# EAGLE library part LM25119?* (library LM5119)
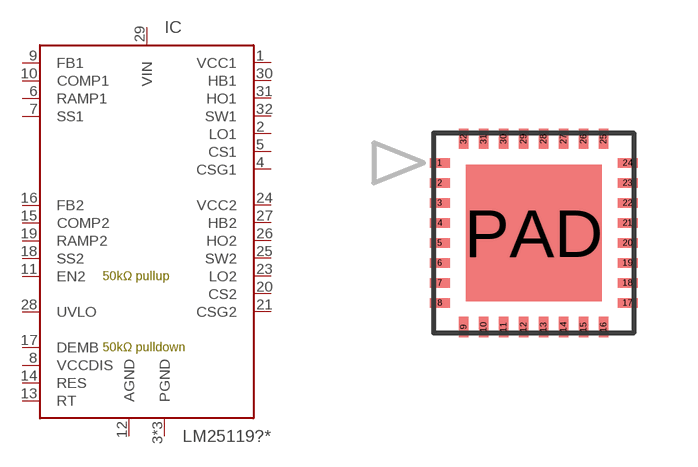
[diagram p1: symbol with the pads of QFN32-5X5-0.5; footprint QFN32-5X5-0.5]

Designator prefix IC

## LM25119PSQ/NOPB (MF: Texas Instruments; MPN: LM25119PSQ/NOPB), LM25119PSQE/NOPB (MF: Texas Instruments; MPN: LM25119PSQE/NOPB), LM25119PSQX/NOPB (MF: Texas Instruments; MPN: LM25119PSQX/NOPB)  [QFN32-5X5-0.5]
1  VCC1
2  LO1  out
3  PGND
4  CSG1  in
5  CS1  in
6  RAMP1  out
7  SS1  in
8  VCCDIS  in
9  FB1  in
10  COMP1  out
11  EN2  in
12  AGND
13  RT  in
14  RES  out
15  COMP2  out
16  FB2  in
17  DEMB  in
18  SS2  in
19  RAMP2  out
20  CS2  in
21  CSG2  in
22  PGND
23  LO2  out
24  VCC2
25  SW2
26  HO2  out
27  HB2  in
28  UVLO  in
29  VIN
30  HB1  in
31  HO1  out
32  SW1
PAD  PGND

## Footprint QFN32-5X5-0.5 (pad centres in mm)
smd 0.5 x 0.23: 1 -2.35,1.75; 2 -2.35,1.25; 3 -2.35,0.75; 4 -2.35,0.25; 5 -2.35,-0.25; 6 -2.35,-0.75; 7 -2.35,-1.25; 8 -2.35,-1.75; 17 2.35,-1.75; 18 2.35,-1.25; 19 2.35,-0.75; 20 2.35,-0.25; 21 2.35,0.25; 22 2.35,0.75; 23 2.35,1.25; 24 2.35,1.75
smd 0.23 x 0.5: 9 -1.75,-2.35; 10 -1.25,-2.35; 11 -0.75,-2.35; 12 -0.25,-2.35; 13 0.25,-2.35; 14 0.75,-2.35; 15 1.25,-2.35; 16 1.75,-2.35; 25 1.75,2.35; 26 1.25,2.35; 27 0.75,2.35; 28 0.25,2.35; 29 -0.25,2.35; 30 -0.75,2.35; 31 -1.25,2.35; 32 -1.75,2.35
smd 3.4 x 3.4: PAD 0,0